# EAGLE library part M38B79(100PIN) (library renesas_mcu)
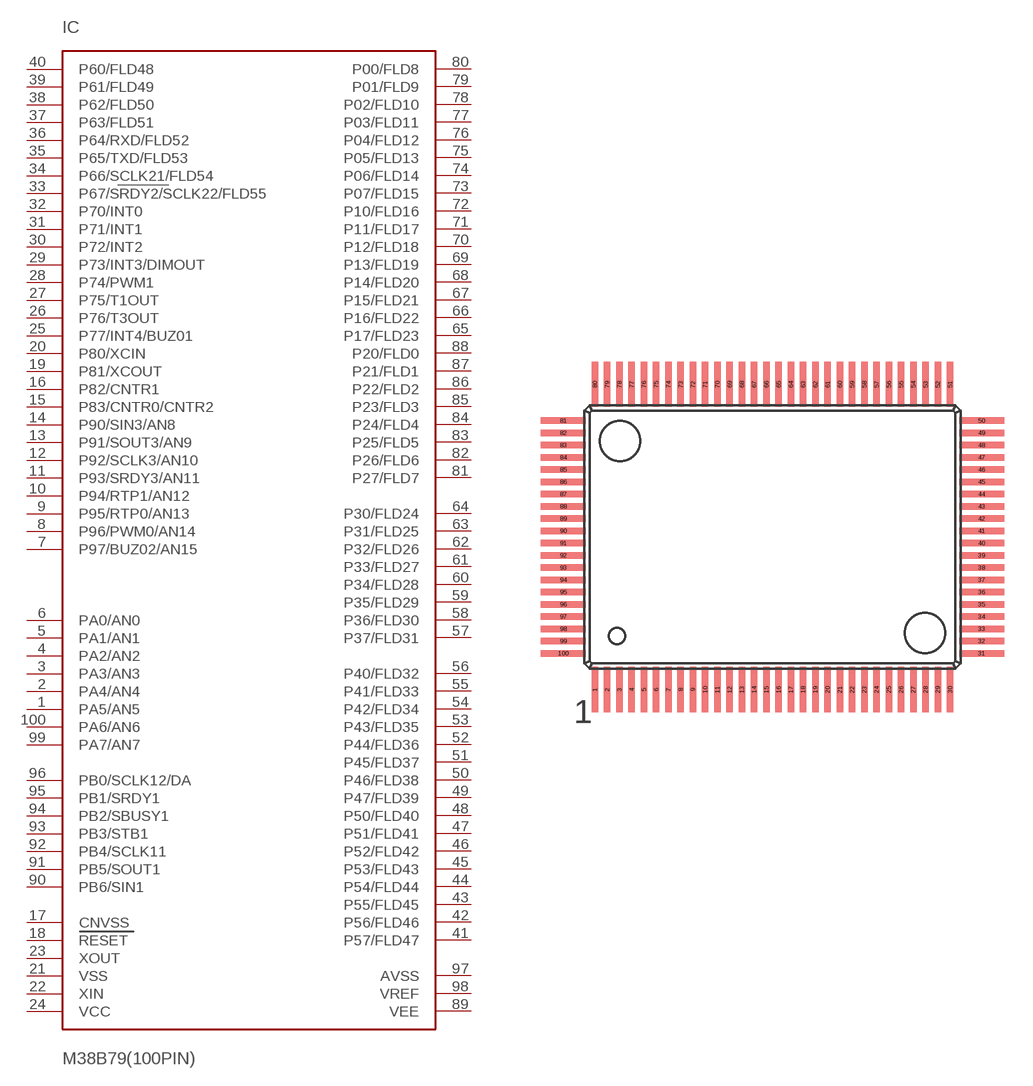
[diagram p72: symbol with the pads of 100P6S-A; footprint 100P6S-A]

Designator prefix IC

## M38B79(100PIN)FP  [100P6S-A]
1  PA5/AN5
2  PA4/AN4
3  PA3/AN3
4  PA2/AN2
5  PA1/AN1
6  PA0/AN0
7  P97/BUZ02/AN15
8  P96/PWM0/AN14
9  P95/RTP0/AN13
10  P94/RTP1/AN12
11  P93/SRDY3/AN11
12  P92/SCLK3/AN10
13  P91/SOUT3/AN9
14  P90/SIN3/AN8
15  P83/CNTR0/CNTR2
16  P82/CNTR1
17  CNVSS  in
18  RESET  in
19  P81/XCOUT
20  P80/XCIN
21  VSS  in
22  XIN  in
23  XOUT  out
24  VCC  in
25  P77/INT4/BUZ01
26  P76/T3OUT
27  P75/T1OUT
28  P74/PWM1
29  P73/INT3/DIMOUT
30  P72/INT2
31  P71/INT1
32  P70/INT0
33  P67/SRDY2/SCLK22/FLD55
34  P66/SCLK21/FLD54
35  P65/TXD/FLD53
36  P64/RXD/FLD52
37  P63/FLD51
38  P62/FLD50
39  P61/FLD49
40  P60/FLD48
41  P57/FLD47
42  P56/FLD46
43  P55/FLD45
44  P54/FLD44
45  P53/FLD43
46  P52/FLD42
47  P51/FLD41
48  P50/FLD40
49  P47/FLD39
50  P46/FLD38
51  P45/FLD37
52  P44/FLD36
53  P43/FLD35
54  P42/FLD34
55  P41/FLD33
56  P40/FLD32
57  P37/FLD31
58  P36/FLD30
59  P35/FLD29
60  P34/FLD28
61  P33/FLD27
62  P32/FLD26
63  P31/FLD25
64  P30/FLD24
65  P17/FLD23
66  P16/FLD22
67  P15/FLD21
68  P14/FLD20
69  P13/FLD19
70  P12/FLD18
71  P11/FLD17
72  P10/FLD16
73  P07/FLD15  out
74  P06/FLD14  out
75  P05/FLD13  out
76  P04/FLD12  out
77  P03/FLD11  out
78  P02/FLD10  out
79  P01/FLD9  out
80  P00/FLD8  out
81  P27/FLD7  out
82  P26/FLD6  out
83  P25/FLD5  out
84  P24/FLD4  out
85  P23/FLD3  out
86  P22/FLD2  out
87  P21/FLD1  out
88  P20/FLD0  out
89  VEE  in
90  PB6/SIN1
91  PB5/SOUT1
92  PB4/SCLK11
93  PB3/STB1
94  PB2/SBUSY1
95  PB1/SRDY1
96  PB0/SCLK12/DA
97  AVSS  in
98  VREF  in
99  PA7/AN7
100  PA6/AN6

## Footprint 100P6S-A (pad centres in mm)
smd 0.35 x 2.4: 1 -9.425,-8.1; 2 -8.775,-8.1; 3 -8.125,-8.1; 4 -7.475,-8.1; 5 -6.825,-8.1; 6 -6.175,-8.1; 7 -5.525,-8.1; 8 -4.875,-8.1; 9 -4.225,-8.1; 10 -3.575,-8.1; 11 -2.925,-8.1; 12 -2.275,-8.1; 13 -1.625,-8.1; 14 -0.975,-8.1; 15 -0.325,-8.1; 16 0.325,-8.1; 17 0.975,-8.1; 18 1.625,-8.1; 19 2.275,-8.1; 20 2.925,-8.1; 21 3.575,-8.1; 22 4.225,-8.1; 23 4.875,-8.1; 24 5.525,-8.1; 25 6.175,-8.1; 26 6.825,-8.1; 27 7.475,-8.1; 28 8.125,-8.1; 29 8.775,-8.1; 30 9.425,-8.1; 51 9.425,8.1; 52 8.775,8.1; 53 8.125,8.1; 54 7.475,8.1; 55 6.825,8.1; 56 6.175,8.1; 57 5.525,8.1; 58 4.875,8.1; 59 4.225,8.1; 60 3.575,8.1; 61 2.925,8.1; 62 2.275,8.1; 63 1.625,8.1; 64 0.975,8.1; 65 0.325,8.1; 66 -0.325,8.1; 67 -0.975,8.1; 68 -1.625,8.1; 69 -2.275,8.1; 70 -2.925,8.1; 71 -3.575,8.1; 72 -4.225,8.1; 73 -4.875,8.1; 74 -5.525,8.1; 75 -6.175,8.1; 76 -6.825,8.1; 77 -7.475,8.1; 78 -8.125,8.1; 79 -8.775,8.1; 80 -9.425,8.1
smd 2.4 x 0.35: 31 11.1,-6.175; 32 11.1,-5.525; 33 11.1,-4.875; 34 11.1,-4.225; 35 11.1,-3.575; 36 11.1,-2.925; 37 11.1,-2.275; 38 11.1,-1.625; 39 11.1,-0.975; 40 11.1,-0.325; 41 11.1,0.325; 42 11.1,0.975; 43 11.1,1.625; 44 11.1,2.275; 45 11.1,2.925; 46 11.1,3.575; 47 11.1,4.225; 48 11.1,4.875; 49 11.1,5.525; 50 11.1,6.175; 81 -11.1,6.175; 82 -11.1,5.525; 83 -11.1,4.875; 84 -11.1,4.225; 85 -11.1,3.575; 86 -11.1,2.925; 87 -11.1,2.275; 88 -11.1,1.625; 89 -11.1,0.975; 90 -11.1,0.325; 91 -11.1,-0.325; 92 -11.1,-0.975; 93 -11.1,-1.625; 94 -11.1,-2.275; 95 -11.1,-2.925; 96 -11.1,-3.575; 97 -11.1,-4.225; 98 -11.1,-4.875; 99 -11.1,-5.525; 100 -11.1,-6.175